# EAGLE library part TUSB2036 (library tusb2036)
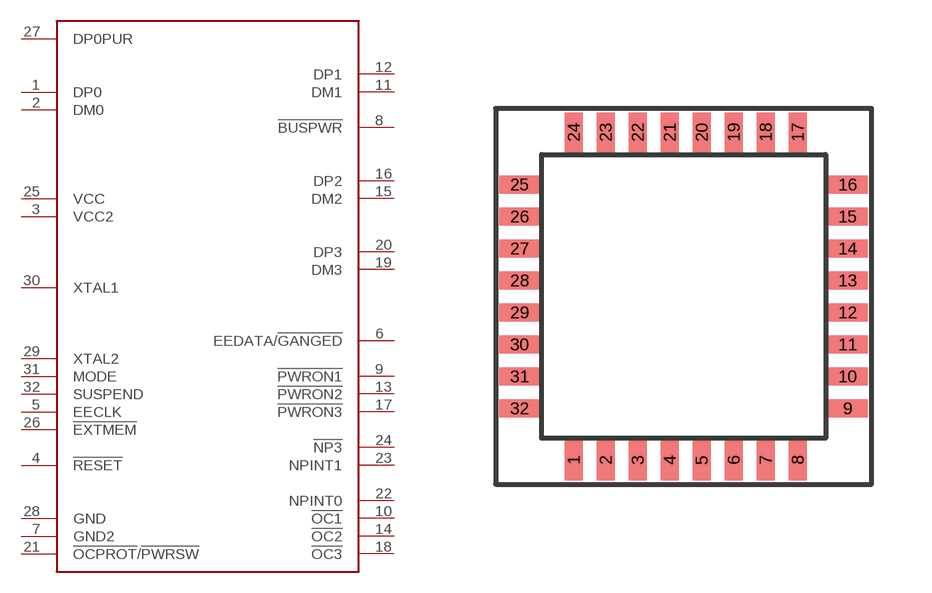
[diagram p0: symbol with the pads of S-PQFP-G32; footprint S-PQFP-G32]

Designator prefix -

## TUSB2036  [S-PQFP-G32]
1  DP0
2  DM0
3  VCC2
4  !RESET
5  EECLK
6  EEDATA/!GANGED
7  GND2
8  !BUSPWR
9  !PWRON1
10  !OC1
11  DM1
12  DP1
13  !PWRON2
14  !OC2
15  DM2
16  DP2
17  !PWRON3
18  !OC3
19  DM3
20  DP3
21  !OCPROT!/!PWRSW
22  NPINT0
23  NPINT1
24  !NP3
25  VCC
26  !EXTMEM
27  DP0PUR
28  GND
29  XTAL2
30  XTAL1
31  MODE
32  SUSPEND

## Footprint S-PQFP-G32 (pad centres in mm)
smd 0.45 x 1: 1 -2.8,0.5; 2 -2,0.5; 3 -1.2,0.5; 4 -0.4,0.5; 5 0.4,0.5; 6 1.2,0.5; 7 2,0.5; 8 2.8,0.5; 17 2.8,8.7; 18 2,8.7; 19 1.2,8.7; 20 0.4,8.7; 21 -0.4,8.7; 22 -1.2,8.7; 23 -2,8.7; 24 -2.8,8.7
smd 1 x 0.45: 9 4.05,1.8; 10 4.05,2.6; 11 4.05,3.4; 12 4.05,4.2; 13 4.05,5; 14 4.05,5.8; 15 4.05,6.6; 16 4.05,7.4; 25 -4.15,7.4; 26 -4.15,6.6; 27 -4.15,5.8; 28 -4.15,5; 29 -4.15,4.2; 30 -4.15,3.4; 31 -4.15,2.6; 32 -4.15,1.8